# Altium footprint library SOT363_INFINEON.PcbLib: 1 footprints
Each footprint in its own frame and in the unit in brackets; x right, y up, seen from the top. Pads: shape width x height; smd on the part's side, far side on the other; paste and mask are expansions set on the pad; w line width, h text height; cw(c..) or ccw(c..) is an arc to the next point about the centre after c.
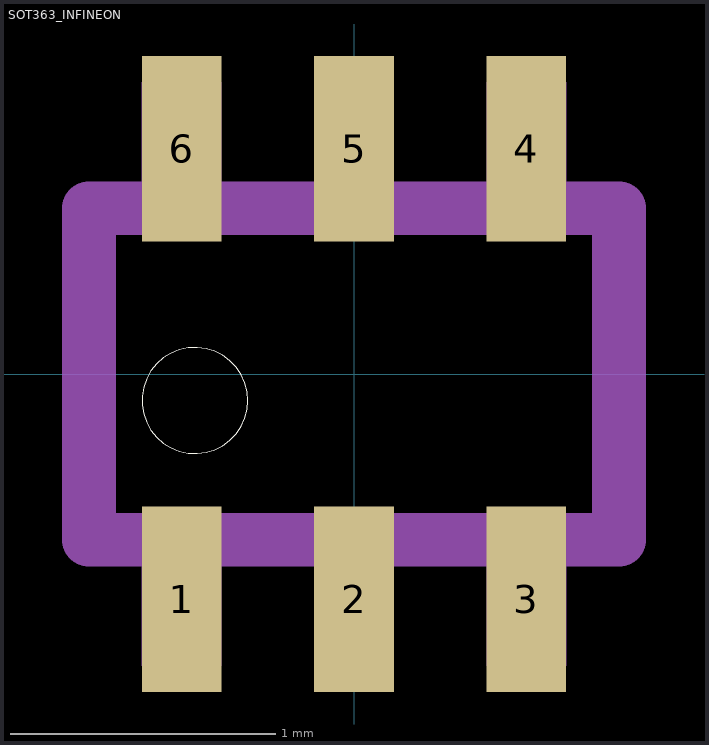
[diagram p0: the footprint, top view; thin cyan lines are the x and y axes]

## SOT363_INFINEON [mm]
pads (6):
  rect 0.3x0.7 smd: 1(-0.65,-0.85) 2(0,-0.85) 3(0.65,-0.85) 4(0.65,0.85) 5(0,0.85) 6(-0.65,0.85)
Top Overlay:
  circle w0: c-0.6,-0.1 r0.2
Assembly Top:
  region: -0.5,-1.1 -0.8,-1.1 -0.8,-0.6 -0.5,-0.6
  region: 0.15,-1.1 -0.15,-1.1 -0.15,-0.6 0.15,-0.6
  region: 0.8,-1.1 0.5,-1.1 0.5,-0.6 0.8,-0.6
  region: 0.8,0.6 0.5,0.6 0.5,1.1 0.8,1.1
  region: 0.15,0.6 -0.15,0.6 -0.15,1.1 0.15,1.1
  region: -0.5,0.6 -0.8,0.6 -0.8,1.1 -0.5,1.1
  lines w0.203: -1,-0.625 1,-0.625 1,0.625 -1,0.625 -1,-0.625
3D body "step_temp.STEP": height 1.1, standoff 0, extent -1,-1.05 1,1.05